# Altium integrated library Linear Technology Power Management Switching Regulator LTC1174-LTC3901.IntLib: 2647 symbols (part 16 of 364)
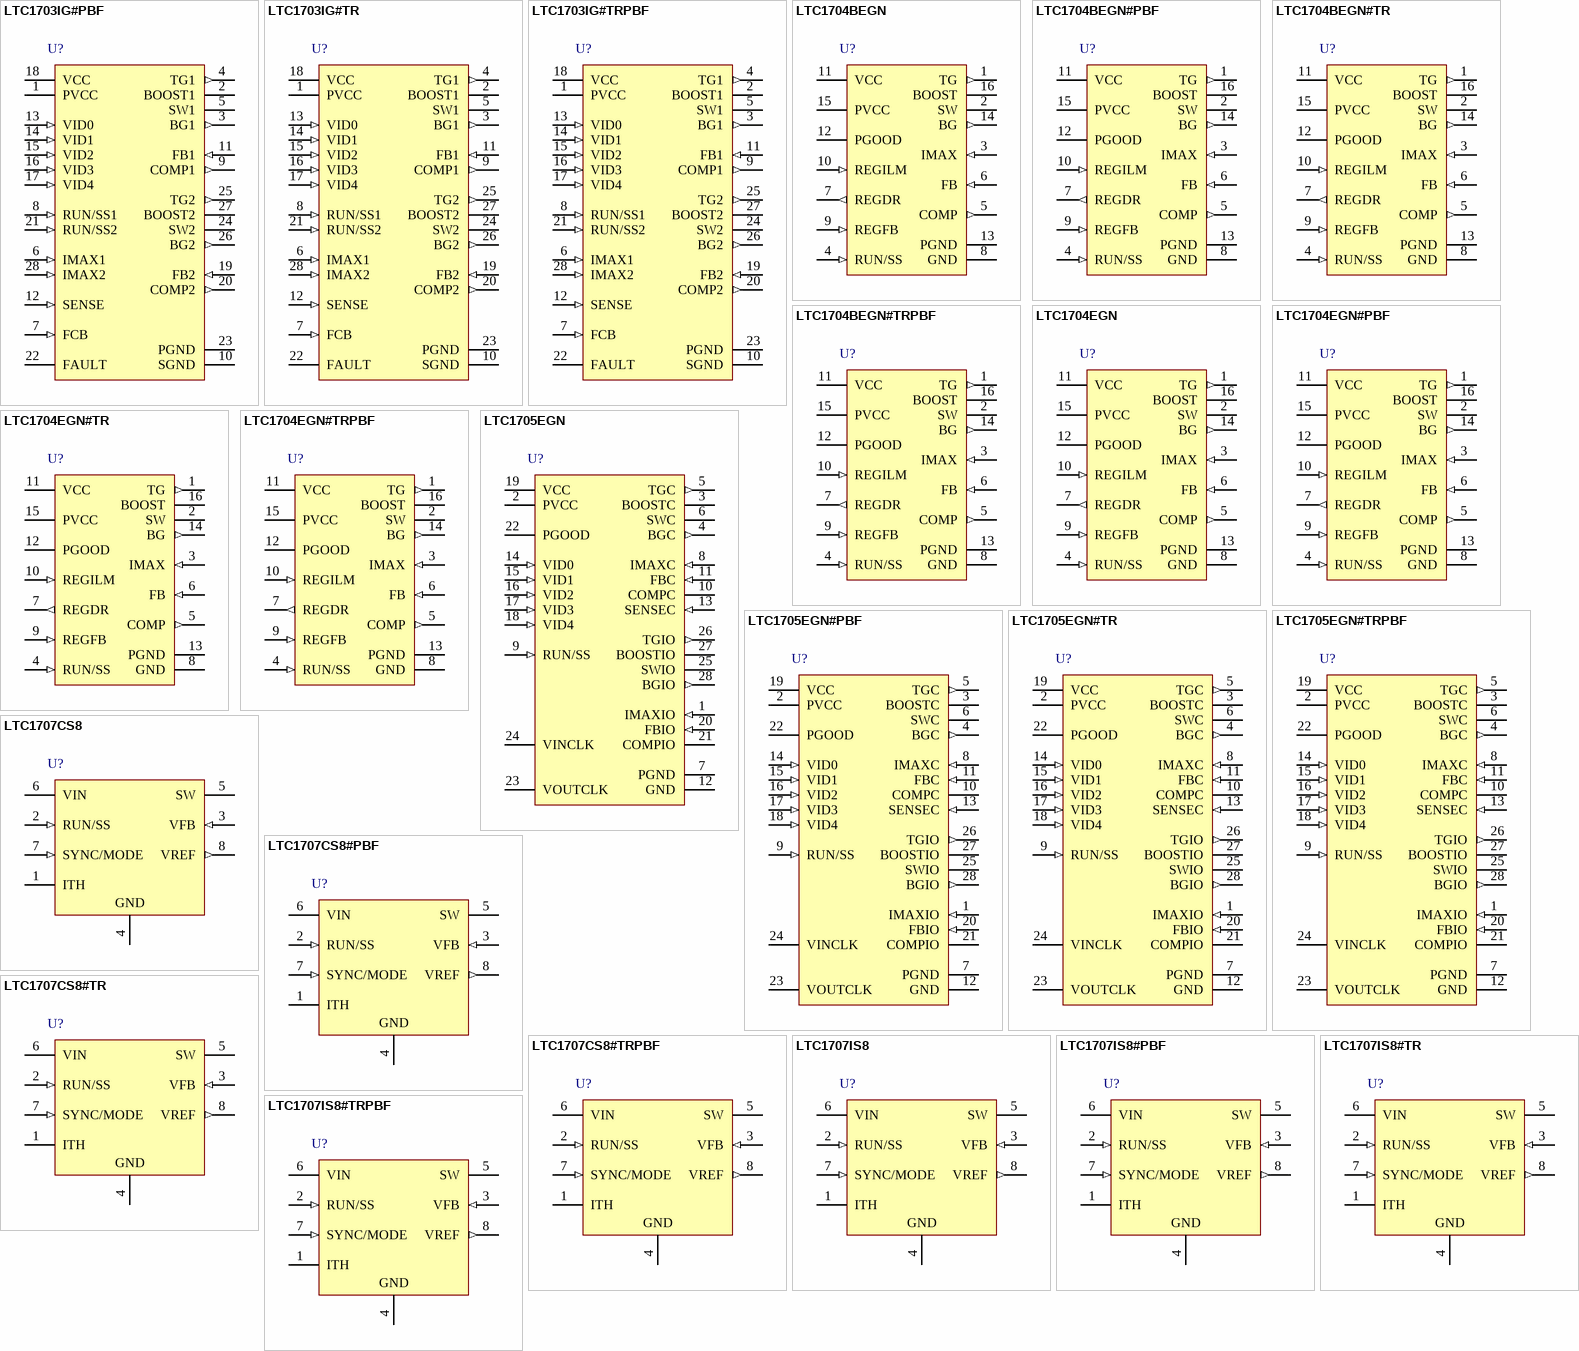
[diagram p223: symbols LTC1703IG#PBF to LTC1707IS8#TRPBF]

## LTC1704BEGN#TRPBF
designator U?
Synchronous Step-Down Controller with Linear Regulator Controller, 16-pin SOP (GN-16), -40 to 85 degC, Pb-Free, Tape and Reel; Manufacturer: Linear Technology; PartNumber: LTC1704BEGN#TRPBF; Number of Outputs: 2; DatasheetVersion: Rev. A; PackageVersion: Rev. B, 03/2012; PackageReference: GN-16; PackageDescription: 16-Pin Plastic SSOP, Body 4.9 x 3.9 mm, Pitch 0.635 mm; Supplier 1: Digi-Key; Supplier Part Number 1: LTC1704BEGN#TRPBF-ND; Packing: Tape and Reel; RoHS: TRUE; Mounting Technology: Surface Mount; ComponentLink1Description: Manufacturer URL; ComponentLink1URL: http://www.linear.com/; ComponentLink2Description: Datasheet; ComponentLink2URL: http://cds.linear.com/docs/en/datasheet/1704bfa.pdf; ComponentLink3Description: Package Specification; ComponentLink3URL: http://cds.linear.com/docs/en/packaging/05081641_B_GN16.pdf
footprint LT-GN-16_N (SOP, 16-Leads, Body 5x4mm, Pitch 0.635mm, IPC Medium Density)
footprint LT-GN-16_L (SOP, 16-Leads, Body 5x4mm, Pitch 0.635mm, IPC High Density)
footprint LT-GN-16_M (SOP, 16-Leads, Body 5x4mm, Pitch 0.635mm, IPC Low Density)
pins: 1 TG (out) "Switcher Controller Top Gate Drive. The TG pin drives the gate of the top N-channel MOSFET, QT. The TG driver draws power from the BOOST pin and returns it to the SW pin, providing true floating drive to QT. TG is designed (See Datasheet)", 2 SW "Switcher Controller Switching Node. Connect SW to the switching node of the main converter. The TG driver ground returns to SW, providing floating gate drive to the top N-channel MOSFET, QT. The voltage at SW is compared to (See Datasheet)", 3 IMAX (in) "Switcher Controller Current Limit Set. The IMAX pin sets the current limit comparator threshold for the switcher controller. If the voltage drop across the bottom MOSFET, QB, exceeds the magnitude of the voltage at IMAX, the (See Datasheet)", 4 RUN/SS (in) "Switcher Controller Soft-Start. A capacitor from RUN/SS to GND controls the turn-on time and rate of rise of the switcher output voltage at power up. An internal 3uA current source pull-up at RUN/SS sets the turn-on time at (See Datasheet)", 5 COMP (out) "Switcher Controller Loop Compensation. The COMP pin is connected directly to the output of the switcher controller’s error amplifier and the input to the PWM comparator. Use an RC network between the COMP pin and the F(See Datasheet)", 6 FB (in) "Switcher Controller Feedback Input. FB should be connected through a resistor divider network to VOUTSW to set the switcher output voltage. Also, connect the switcher loop compensation network to FB.", 7 REGDR (out) "Linear Regulator Controller Driver Output. Connect REGDR to the base of the external NPN Pass transistor. The REGILM pin input current controls the linear regulator controller maximum driving capability.", 8 GND (power) "Signal Ground. All internal low power circuitry returns to the GND pin. Connect to a low impedance ground, separated from the PGND node. All feedback,compensation and soft-start connections should return to GND. GND and PGND (See Datasheet)", 9 REGFB (in) "Linear Regulator Controller Feedback Input. REGFB should be connected through a resistor divider network to VOUTREG to set the output voltage of the linear regulator.", 10 REGILM (in) "Linear Regulator Controller Current Limit Setting cum ON/OFF Control. This pin is internally servoed to 0.8V. An external resistor RREGILM between VCC and REGILM programs the REGILM pin input current. This current determines (See Datasheet)", 11 VCC (power) "Power Supply Input. All internal circuits except the switcher output drivers are powered from this pin. VCC should be connected to a low noise 5V supply, and should be bypassed to GND with at least a 10uF capacitor in close (See Datasheet)", 12 PGOOD (oc) "Power Good. PGOOD is an open-drain logic output. PGOOD pulls low if any of the two supply outputs are outside +/-10% of their nominal levels. An external pull-up resistor is required at PGOOD to allow it to swing positive.", 13 PGND (power) "Power Ground. The BG driver returns to this pin. Connect PGND to a high current ground node in close proximity to the sources of external MOSFET QB, and the VIN and VOUTSW bypass capacitors.", 14 BG (out) "Switcher Controller Bottom Gate Drive. The BG pin drives the gate of the bottom N-channel synchronous switch MOSFET, QB. BG is designed to typically drive up to 10,000pF of gate capacitance.", 15 PVCC (power) "Switcher Controller Bottom Gate Driver Supply. PVCC provides power to the BG output driver. PVCC must be connected to a voltage high enough to fully turn on the external MOSFET, QB. PVCC should generally be connected (See Datasheet)", 16 BOOST "Switcher Controller Top Gate Driver Supply. The BOOST pin supplies power to the floating TG driver. Bypass BOOST to SW with a 1uF capacitor. An external Schottky diode from VIN to BOOST creates a complete floating (See Datasheet)"